# EAGLE library part MB96F355ASBPMC-GSE2 (library Fujitsu_By_element14_Batch_1)
16-bit Proprietary Microcontroller
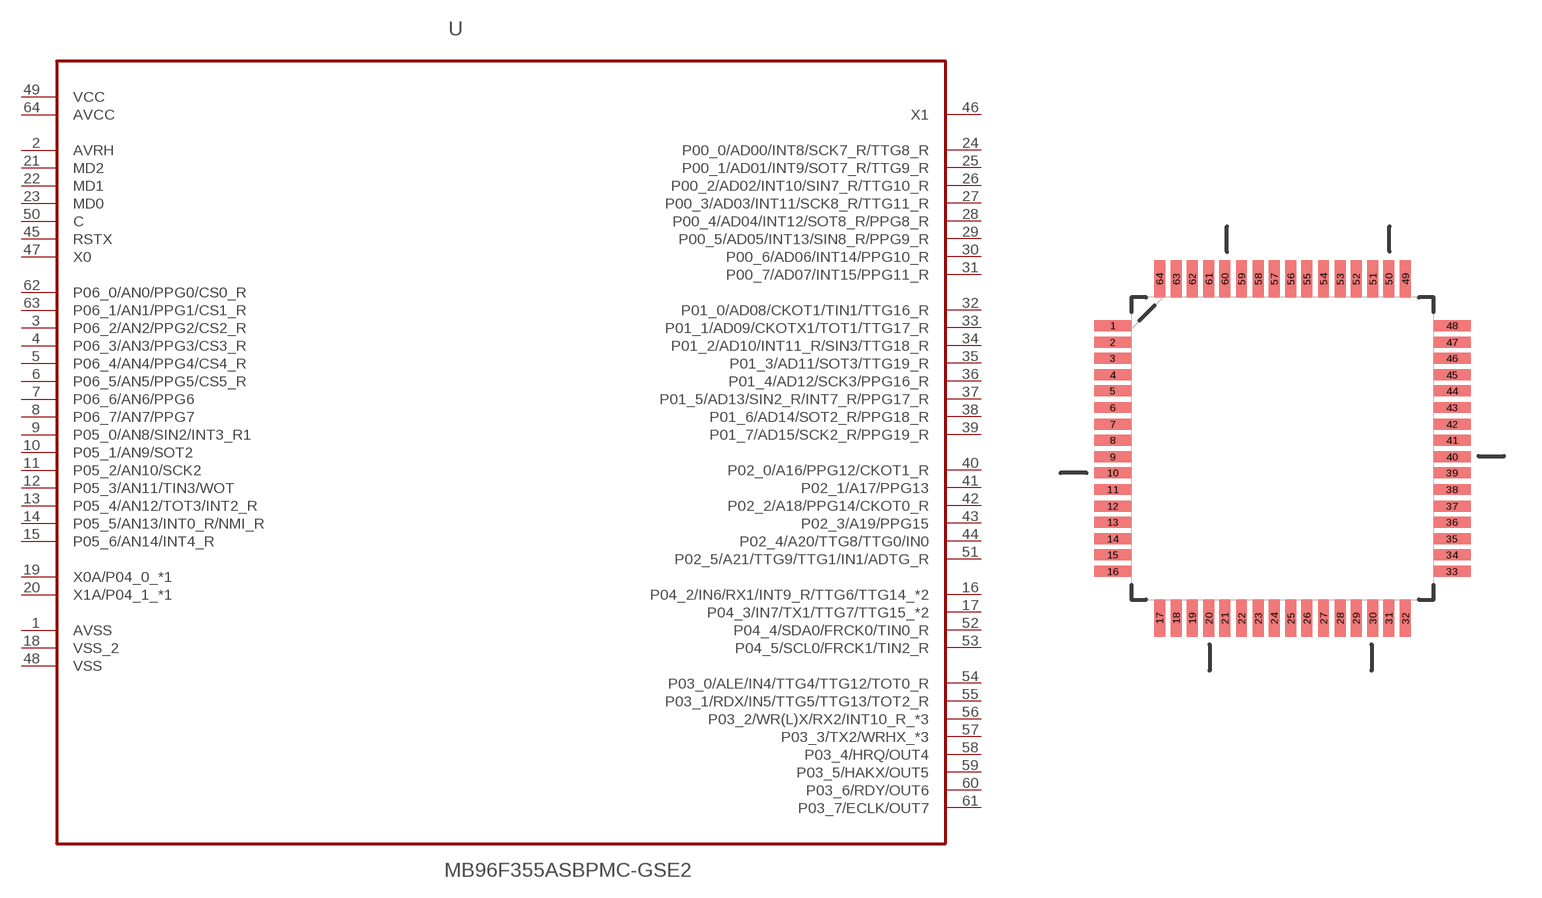
[diagram p10: symbol with the pads of QFP65P1400X1400X170-64N; footprint QFP65P1400X1400X170-64N]

Designator prefix U

## MB96F355ASBPMC-GSE2 (MPN: MB96F355ASBPMC-GSE2; OC_FARNELL: 1831970; OC_NEWARK: 93R5198; PACKAGE: LQFP-64; SUPPLIER: FUJITSU)  [QFP65P1400X1400X170-64N]
1  AVSS  pas
2  AVRH  in
3  P06_2/AN2/PPG2/CS2_R
4  P06_3/AN3/PPG3/CS3_R
5  P06_4/AN4/PPG4/CS4_R
6  P06_5/AN5/PPG5/CS5_R
7  P06_6/AN6/PPG6
8  P06_7/AN7/PPG7
9  P05_0/AN8/SIN2/INT3_R1
10  P05_1/AN9/SOT2
11  P05_2/AN10/SCK2
12  P05_3/AN11/TIN3/WOT
13  P05_4/AN12/TOT3/INT2_R
14  P05_5/AN13/INT0_R/NMI_R
15  P05_6/AN14/INT4_R
16  P04_2/IN6/RX1/INT9_R/TTG6/TTG14_*2
17  P04_3/IN7/TX1/TTG7/TTG15_*2
18  VSS_2  pas
19  X0A/P04_0_*1  in
20  X1A/P04_1_*1  in
21  MD2  in
22  MD1  in
23  MD0  in
24  P00_0/AD00/INT8/SCK7_R/TTG8_R
25  P00_1/AD01/INT9/SOT7_R/TTG9_R
26  P00_2/AD02/INT10/SIN7_R/TTG10_R
27  P00_3/AD03/INT11/SCK8_R/TTG11_R
28  P00_4/AD04/INT12/SOT8_R/PPG8_R
29  P00_5/AD05/INT13/SIN8_R/PPG9_R
30  P00_6/AD06/INT14/PPG10_R
31  P00_7/AD07/INT15/PPG11_R
32  P01_0/AD08/CKOT1/TIN1/TTG16_R
33  P01_1/AD09/CKOTX1/TOT1/TTG17_R
34  P01_2/AD10/INT11_R/SIN3/TTG18_R
35  P01_3/AD11/SOT3/TTG19_R
36  P01_4/AD12/SCK3/PPG16_R
37  P01_5/AD13/SIN2_R/INT7_R/PPG17_R
38  P01_6/AD14/SOT2_R/PPG18_R
39  P01_7/AD15/SCK2_R/PPG19_R
40  P02_0/A16/PPG12/CKOT1_R
41  P02_1/A17/PPG13
42  P02_2/A18/PPG14/CKOT0_R
43  P02_3/A19/PPG15
44  P02_4/A20/TTG8/TTG0/IN0
45  RSTX  in
46  X1  out
47  X0  in
48  VSS  pas
49  VCC  pwr
50  C  in
51  P02_5/A21/TTG9/TTG1/IN1/ADTG_R
52  P04_4/SDA0/FRCK0/TIN0_R
53  P04_5/SCL0/FRCK1/TIN2_R
54  P03_0/ALE/IN4/TTG4/TTG12/TOT0_R
55  P03_1/RDX/IN5/TTG5/TTG13/TOT2_R
56  P03_2/WR(L)X/RX2/INT10_R_*3
57  P03_3/TX2/WRHX_*3
58  P03_4/HRQ/OUT4
59  P03_5/HAKX/OUT5
60  P03_6/RDY/OUT6
61  P03_7/ECLK/OUT7
62  P06_0/AN0/PPG0/CS0_R
63  P06_1/AN1/PPG1/CS1_R
64  AVCC  pwr

## Footprint QFP65P1400X1400X170-64N (pad centres in mm)
smd 1.473 x 0.432: 1 -6.731,4.877; 2 -6.731,4.216; 3 -6.731,3.581; 4 -6.731,2.921; 5 -6.731,2.286; 6 -6.731,1.626; 7 -6.731,0.965; 8 -6.731,0.33; 9 -6.731,-0.33; 10 -6.731,-0.965; 11 -6.731,-1.626; 12 -6.731,-2.286; 13 -6.731,-2.921; 14 -6.731,-3.581; 15 -6.731,-4.216; 16 -6.731,-4.877; 33 6.731,-4.877; 34 6.731,-4.216; 35 6.731,-3.581; 36 6.731,-2.921; 37 6.731,-2.286; 38 6.731,-1.626; 39 6.731,-0.965; 40 6.731,-0.33; 41 6.731,0.33; 42 6.731,0.965; 43 6.731,1.626; 44 6.731,2.286; 45 6.731,2.921; 46 6.731,3.581; 47 6.731,4.216; 48 6.731,4.877
smd 0.432 x 1.473: 17 -4.877,-6.731; 18 -4.216,-6.731; 19 -3.581,-6.731; 20 -2.921,-6.731; 21 -2.286,-6.731; 22 -1.626,-6.731; 23 -0.965,-6.731; 24 -0.33,-6.731; 25 0.33,-6.731; 26 0.965,-6.731; 27 1.626,-6.731; 28 2.286,-6.731; 29 2.921,-6.731; 30 3.581,-6.731; 31 4.216,-6.731; 32 4.877,-6.731; 49 4.877,6.731; 50 4.216,6.731; 51 3.581,6.731; 52 2.921,6.731; 53 2.286,6.731; 54 1.626,6.731; 55 0.965,6.731; 56 0.33,6.731; 57 -0.33,6.731; 58 -0.965,6.731; 59 -1.626,6.731; 60 -2.286,6.731; 61 -2.921,6.731; 62 -3.581,6.731; 63 -4.216,6.731; 64 -4.877,6.731